# Altium footprint library SC70-5_SOT353_TSSOP5.PcbLib: 1 footprints
Each footprint in its own frame and in the unit in brackets; x right, y up, seen from the top. Pads: shape width x height; smd on the part's side, far side on the other; paste and mask are expansions set on the pad; w line width, h text height; cw(c..) or ccw(c..) is an arc to the next point about the centre after c.
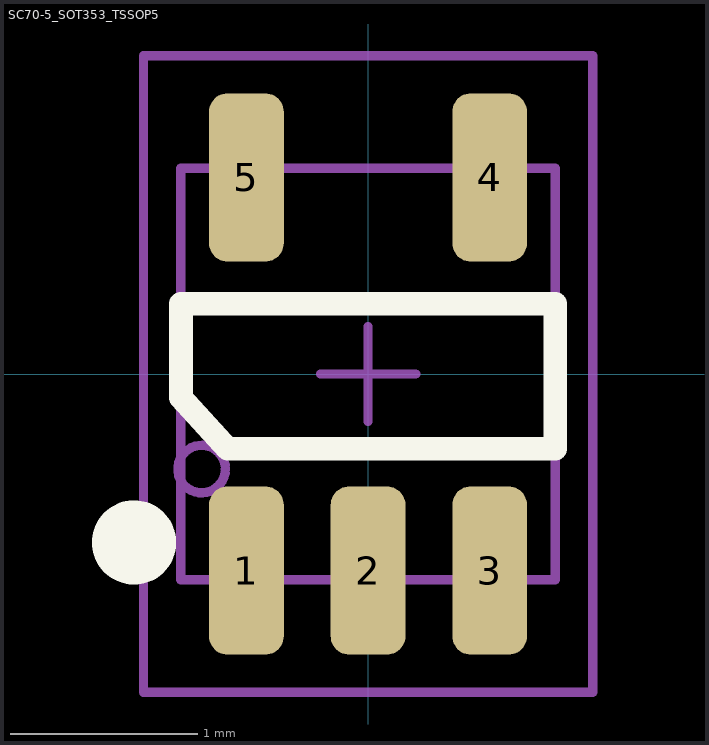
[diagram p0: the footprint, top view; thin cyan lines are the x and y axes]

## SC70-5_SOT353_TSSOP5 [mm]
pads (5):
  rrect50% 0.4x0.9 smd mask+0.05: 1(-0.65,-1.05) 2(0,-1.05) 3(0.65,-1.05) 4(0.65,1.05) 5(-0.65,1.05)
Top Overlay:
  circle w0.25: c-1.25,-0.9 r0.1
  lines w0.127: -1,-0.125 -1,0.375 1,0.375 1,-0.4 -0.75,-0.4 -1,-0.125
Top Assembly:
  circle w0.05: c-0.889,-0.508 r0.127
  lines w0.05: -1,-1.1 -1,1.1 1,1.1 1,-1.1 -1,-1.1
Top Courtyard:
  lines w0.05: -0.254,0 0.254,0 ; 0,-0.254 0,0.254 ; -1.2,-1.7 1.2,-1.7 1.2,1.7 -1.2,1.7 -1.2,-1.7
3D body "User Library-sot353.step": height 1, standoff 0, extent -1.065,-1.16 1.035,1.14